# Altium footprint library AND GATE.PcbLib: 1 footprints
Each footprint in its own frame and in the unit in brackets; x right, y up, seen from the top. Pads: shape width x height; smd on the part's side, far side on the other; paste and mask are expansions set on the pad; w line width, h text height; cw(c..) or ccw(c..) is an arc to the next point about the centre after c.
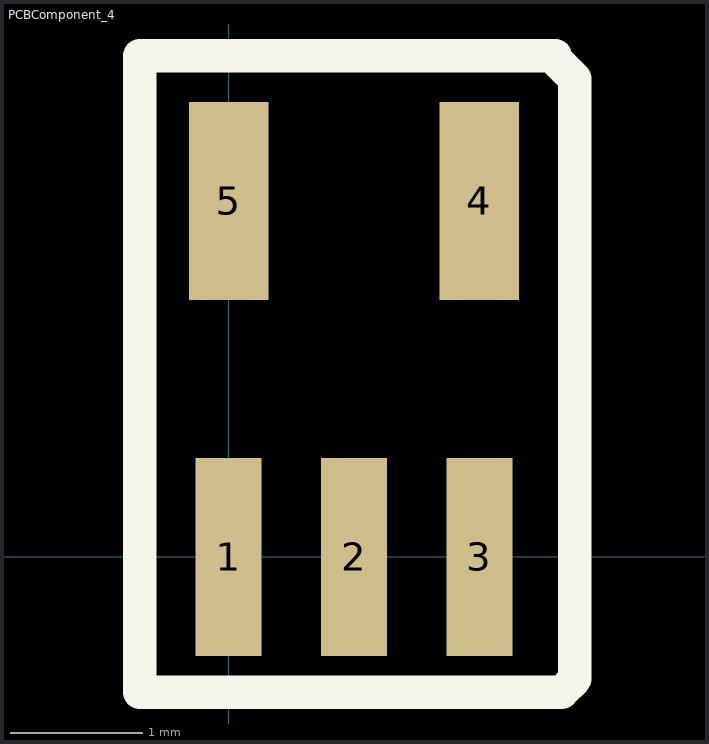
[diagram p0: the footprint, top view; thin cyan lines are the x and y axes]

## PCBComponent_4 [mm]
pads (5):
  rect 0.5x1.5 smd: 1(0,0) 2(0.95,0) 3(1.9,0)
  rect 0.6x1.5 smd: 4(1.9,2.7) 5(0,2.7)
Top Overlay:
  lines w0.254: -0.675,-1.025 2.525,-1.025 2.625,-0.925 2.625,3.625 2.475,3.775 2.475,3.8 -0.675,3.8 -0.675,-1.025